# Altium schematic symbol library 3.5inch_QD-TFT3518_37pin.SCHLIB: 1 symbol
Pins are listed as number, name and electrical type; pins without a type are passive.

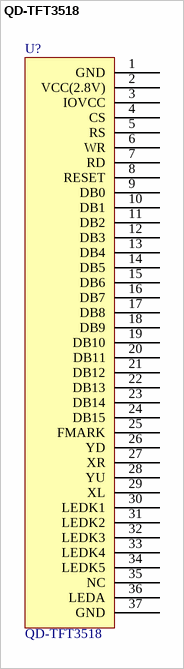
[diagram p0: symbol QD-TFT3518]

## QD-TFT3518
designator U?
3.5inch TFT LCD
footprint QD-TFT3518 (3.5inch TFT LCD)
pins: 1 GND, 2 VCC(2.8V), 3 IOVCC, 4 CS, 5 RS, 6 WR, 7 RD, 8 RESET, 9 DB0, 10 DB1, 11 DB2, 12 DB3, 13 DB4, 14 DB5, 15 DB6, 16 DB7, 17 DB8, 18 DB9, 19 DB10, 20 DB11, 21 DB12, 22 DB13, 23 DB14, 24 DB15, 25 FMARK, 26 YD, 27 XR, 28 YU, 29 XL, 30 LEDK1, 31 LEDK2, 32 LEDK3, 33 LEDK4, 34 LEDK5, 35 NC, 36 LEDA, 37 GND